# Altium schematic symbol library B4B-XH-A_LF__SN_.SchLib: 2 symbols
Pins are listed as number, name and electrical type; pins without a type are passive.

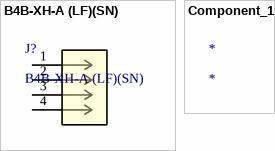
[diagram p0: symbols B4B-XH-A (LF)(SN) to Component_1]

## B4B-XH-A (LF)(SN)
designator J?
No Description Available; Mfr_Name: JST; Copyright: Copyright (C) 2022 Ultra Librarian. All rights reserved.; Manufacturer_Part_Number: B4B-XH-A (LF)(SN); Digi-Key_Part_Number_1: 455-2249-ND; RefDes: RefDes; Type: DEV
footprint CONN_B4B-XH-A (LF)(SN)_JST
pins: 1, 2, 3, 4

## Component_1
designator *